# EAGLE library part OKY-T/16-D12N-C (library MFLB Library)
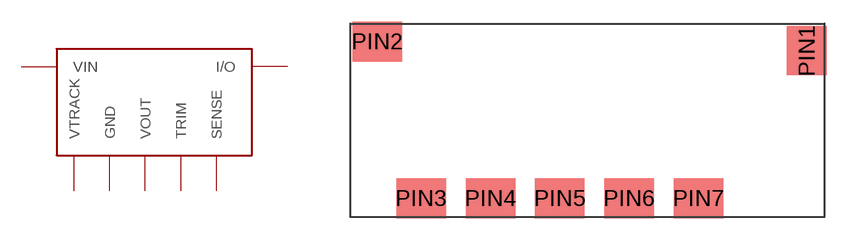
[diagram p0: symbol with the pads of OKY-T/16-D12N-C; footprint OKY-T/16-D12N-C]

Designator prefix -

## OKY-T/16-D12N-C  [OKY-T/16-D12N-C]
PIN1  I/O
PIN2  VIN
PIN3  VTRACK
PIN4  GND
PIN5  VOUT
PIN6  TRIM
PIN7  SENSE

## Footprint OKY-T/16-D12N-C (pad centres in mm)
smd 2.79 x 3.43: PIN1 15.28,4.85
smd 3.43 x 2.79: PIN2 -14.62,5.49; PIN3 -11.57,-5.44; PIN4 -6.74,-5.44; PIN5 -1.92,-5.44; PIN6 2.91,-5.44; PIN7 7.74,-5.44